# Altium integrated library TI_Logic_Flip-Flop,Latch,Register.IntLib: 2598 symbols (part 53 of 122)
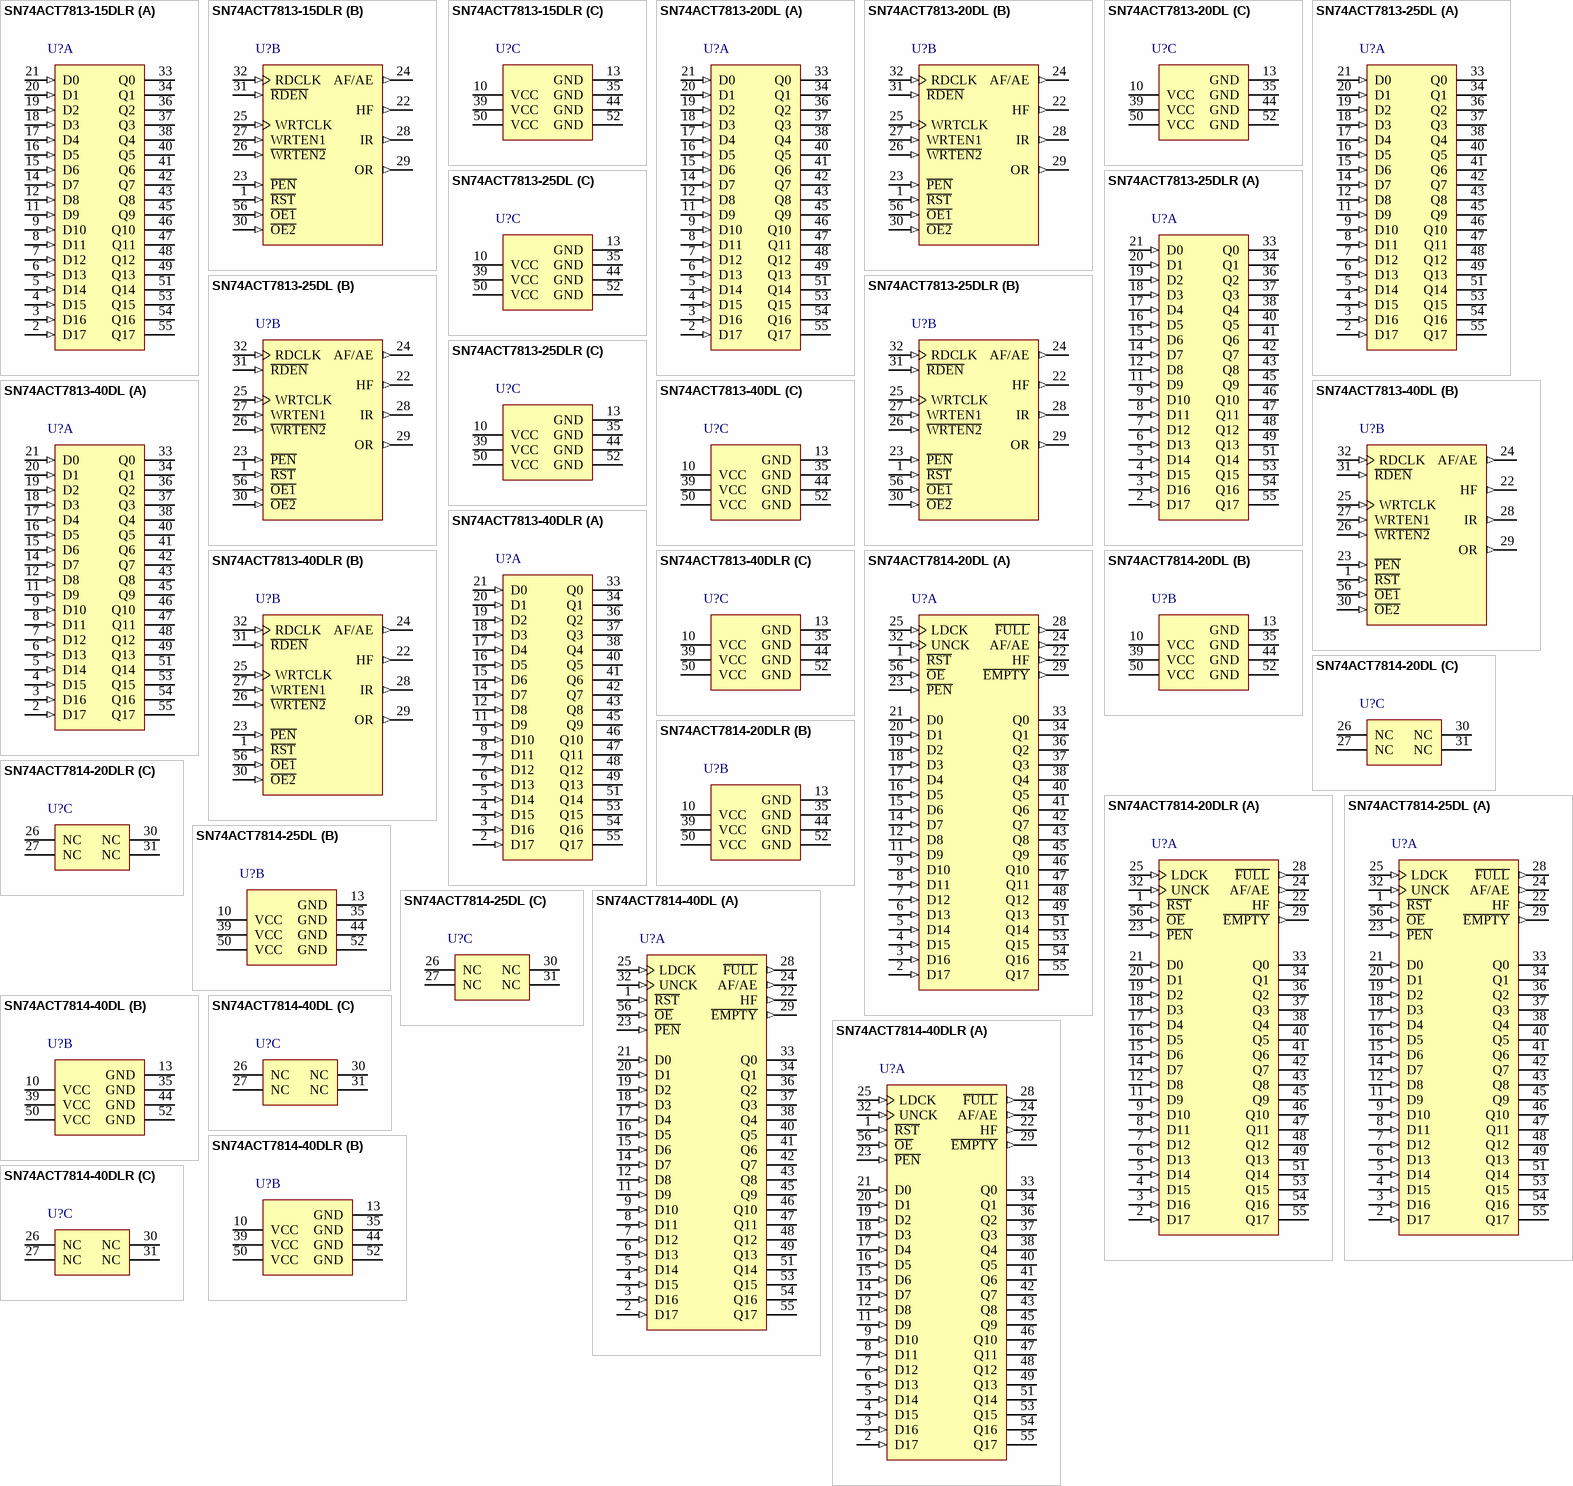
[diagram p191: symbols SN74ACT7813-15DLR to SN74ACT7814-40DLR]

## SN74ACT7813-40DLR
designator U?
64 x 18 synchronous FIFO memory, DL0056A, LARGE T&R; Generic Part Number: SN74ACT7813; Manufacturer: Texas Instruments; PartNumber: SN74ACT7813-40DLR; Fmax(MHz): 67; Voltage Nodes(V): 5; Sync/Async: S; Rating: Catalog; Output Drive(mA): -0.5; DatasheetVersion: SCAS199B; PackageReference: DL0056A; Depth: 64; Width: 18; Code_JEDEC: MO-118; ComponentLink1Description: Manufacturer URL; ComponentLink1URL: http://www.ti.com/; ComponentLink2Description: Datasheet; ComponentLink2URL: http://www.ti.com/lit/ds/symlink/sn74act7813.pdf; ComponentLink3Description: Package Specification; ComponentLink3URL: http://www.ti.com/lit/ml/mpds491/mpds491.pdf
footprint DL0056A_N (SOP, 56-Leads, Body 7.6x18.5mm, Pitch 0.635mm, IPC Medium Density)
footprint DL0056A_M (SOP, 56-Leads, Body 7.6x18.5mm, Pitch 0.635mm, IPC Low Density)
footprint DL0056A_L (SOP, 56-Leads, Body 7.6x18.5mm, Pitch 0.635mm, IPC High Density)
part A pins: 2 D17 (in) "18-bit data input port", 3 D16 (in) "18-bit data input port", 4 D15 (in) "18-bit data input port", 5 D14 (in) "18-bit data input port", 6 D13 (in) "18-bit data input port", 7 D12 (in) "18-bit data input port", 8 D11 (in) "18-bit data input port", 9 D10 (in) "18-bit data input port", 11 D9 (in) "18-bit data input port", 12 D8 (in) "18-bit data input port", 14 D7 (in) "18-bit data input port", 15 D6 (in) "18-bit data input port", 16 D5 (in) "18-bit data input port", 17 D4 (in) "18-bit data input port", 18 D3 (in) "18-bit data input port", 19 D2 (in) "18-bit data input port", 20 D1 (in) "18-bit data input port", 21 D0 (in) "18-bit data input port", 33 Q0 (hiz) "18-bit data output port. After the first valid write to empty memory, the first word is output on Q0-Q17 on the third rising edge of RDCLK. OR is also asserted high at this time to indicate ready data. When OR is low, th(See Datasheet)", 34 Q1 (hiz) "18-bit data output port. After the first valid write to empty memory, the first word is output on Q0-Q17 on the third rising edge of RDCLK. OR is also asserted high at this time to indicate ready data. When OR is low, th(See Datasheet)", 36 Q2 (hiz) "18-bit data output port. After the first valid write to empty memory, the first word is output on Q0-Q17 on the third rising edge of RDCLK. OR is also asserted high at this time to indicate ready data. When OR is low, th(See Datasheet)", 37 Q3 (hiz) "18-bit data output port. After the first valid write to empty memory, the first word is output on Q0-Q17 on the third rising edge of RDCLK. OR is also asserted high at this time to indicate ready data. When OR is low, th(See Datasheet)", 38 Q4 (hiz) "18-bit data output port. After the first valid write to empty memory, the first word is output on Q0-Q17 on the third rising edge of RDCLK. OR is also asserted high at this time to indicate ready data. When OR is low, th(See Datasheet)", 40 Q5 (hiz) "18-bit data output port. After the first valid write to empty memory, the first word is output on Q0-Q17 on the third rising edge of RDCLK. OR is also asserted high at this time to indicate ready data. When OR is low, th(See Datasheet)", 41 Q6 (hiz) "18-bit data output port. After the first valid write to empty memory, the first word is output on Q0-Q17 on the third rising edge of RDCLK. OR is also asserted high at this time to indicate ready data. When OR is low, th(See Datasheet)", 42 Q7 (hiz) "18-bit data output port. After the first valid write to empty memory, the first word is output on Q0-Q17 on the third rising edge of RDCLK. OR is also asserted high at this time to indicate ready data. When OR is low, th(See Datasheet)", 43 Q8 (hiz) "18-bit data output port. After the first valid write to empty memory, the first word is output on Q0-Q17 on the third rising edge of RDCLK. OR is also asserted high at this time to indicate ready data. When OR is low, th(See Datasheet)", 45 Q9 (hiz) "18-bit data output port. After the first valid write to empty memory, the first word is output on Q0-Q17 on the third rising edge of RDCLK. OR is also asserted high at this time to indicate ready data. When OR is low, th(See Datasheet)", 46 Q10 (hiz) "18-bit data output port. After the first valid write to empty memory, the first word is output on Q0-Q17 on the third rising edge of RDCLK. OR is also asserted high at this time to indicate ready data. When OR is low, th(See Datasheet)", 47 Q11 (hiz) "18-bit data output port. After the first valid write to empty memory, the first word is output on Q0-Q17 on the third rising edge of RDCLK. OR is also asserted high at this time to indicate ready data. When OR is low, th(See Datasheet)", 48 Q12 (hiz) "18-bit data output port. After the first valid write to empty memory, the first word is output on Q0-Q17 on the third rising edge of RDCLK. OR is also asserted high at this time to indicate ready data. When OR is low, th(See Datasheet)", 49 Q13 (hiz) "18-bit data output port. After the first valid write to empty memory, the first word is output on Q0-Q17 on the third rising edge of RDCLK. OR is also asserted high at this time to indicate ready data. When OR is low, th(See Datasheet)", 51 Q14 (hiz) "18-bit data output port. After the first valid write to empty memory, the first word is output on Q0-Q17 on the third rising edge of RDCLK. OR is also asserted high at this time to indicate ready data. When OR is low, th(See Datasheet)", 53 Q15 (hiz) "18-bit data output port. After the first valid write to empty memory, the first word is output on Q0-Q17 on the third rising edge of RDCLK. OR is also asserted high at this time to indicate ready data. When OR is low, th(See Datasheet)", 54 Q16 (hiz) "18-bit data output port. After the first valid write to empty memory, the first word is output on Q0-Q17 on the third rising edge of RDCLK. OR is also asserted high at this time to indicate ready data. When OR is low, th(See Datasheet)", 55 Q17 (hiz) "18-bit data output port. After the first valid write to empty memory, the first word is output on Q0-Q17 on the third rising edge of RDCLK. OR is also asserted high at this time to indicate ready data. When OR is low, th(See Datasheet)"
part B pins: 1 ~{RST} (in) "Reset. To reset the FIFO, four low-to-high transitions of RDCLK and four low-to-high transitions of WRTCLK must occur while R\E\S\E\T\ is low. This sets HF, IR, and OR low and AF/AE high.", 22 HF (out) "Half-full flag. HF is high when the FIFO memory contains 256 or more words. HF is low after reset.", 23 ~{PEN} (in) "Program enable. After reset and before the first word is written to the FIFO, the binary value on D0-D7 is latched as an AF/AE offset value when P\E\N\ is low and WRTCLK is high", 24 AF/AE (out) "Almost-full/almost-empty flag. Depth offset values can be programmed for AF/AE, or the default value of 64 can be used for both the almost-empty offset (X) and the almost-full offset (Y). AF/AE is high when memory contains X (See Datasheet)", 25 WRTCLK (in) "Write clock. WRTCLK is a continuous clock and can be asynchronous or coincident to RDCLK. A low-to-high transition of WRTCLK writes data to memory when W\R\T\E\N\2\ is low, WRTEN1 is high, and IR is high. IR is synchronous (See Datasheet)", 26 ~{WRTEN2} (in) "Write enables. When WRTEN1 is high, W\R\T\E\N\2\ is low, and IR is high, data is written to the FIFO on a low-to-high transition of WRTCLK.", 27 WRTEN1 (in) "Write enables. When WRTEN1 is high, W\R\T\E\N\2\ is low, and IR is high, data is written to the FIFO on a low-to-high transition of WRTCLK.", 28 IR (out) "Input ready flag. IR is synchronized to the low-to-high transition of WRTCLK. When IR is low, the FIFO is full and writes are disabled. IR is low during reset and goes high on the second low-to-high transition of WRTCLK (See Datasheet)", 29 OR (out) "Output ready flag. OR is synchronized to the low-to-high transition of RDCLK. When OR is low, the FIFO is empty and reads are disabled. Ready data is present on Q0-Q17 when OR is high. OR is low during reset and goes hig(See Datasheet)", 30 ~{OE2} (in) "Output enables. When O\E\1\, O\E\2\, and R\D\E\N\ are low and OR is high, data is read from the FIFO on a low-to-high transition of RDCLK. When either O\E\1\ or O\E\2\ is high, reads are disabled and the data outputs are in (See Datasheet)", 31 ~{RDEN} (in) "Read enable. When R\D\E\N\, O\E\1\, and O\E\2\ are low and OR is high, data is read from the FIFO on the low-to-high transition of RDCLK.", 32 RDCLK (in) "Read clock. RDCLK is a continuous clock and can be asynchronous or coincident to WRTCLK. A low-to-high transition of RDCLK reads data from memory when O\E\1\, O\E\2\, and R\D\E\N\ are low and OR is high. OR is synchronous to (See Datasheet)", 56 ~{OE1} (in) "Output enables. When O\E\1\, O\E\2\, and R\D\E\N\ are low and OR is high, data is read from the FIFO on a low-to-high transition of RDCLK. When either O\E\1\ or O\E\2\ is high, reads are disabled and the data outputs are in (See Datasheet)"
part C pins: 10 VCC (power), 13 GND (power), 35 GND (power), 39 VCC (power), 44 GND (power), 50 VCC (power), 52 GND (power)

## SN74ACT7814-20DL
designator U?
64 x 18 asynchronous FIFO memory, DL0056A, TUBE; Generic Part Number: SN74ACT7814; Manufacturer: Texas Instruments; PartNumber: SN74ACT7814-20DL; Vcc range(V): 4.5 to 5.5; Fmax(MHz): 50; Voltage Nodes(V): 5; Sync/Async: A; Rating: Catalog; Output Drive(mA): -0.5; DatasheetVersion: SCAS209C; PackageReference: DL0056A; Depth: 64; Width: 18; Code_JEDEC: MO-118; ComponentLink1Description: Manufacturer URL; ComponentLink1URL: http://www.ti.com/; ComponentLink2Description: Datasheet; ComponentLink2URL: http://www.ti.com/lit/ds/symlink/sn74act7814.pdf; ComponentLink3Description: Package Specification; ComponentLink3URL: http://www.ti.com/lit/ml/mpds491/mpds491.pdf
footprint DL0056A_N (SOP, 56-Leads, Body 7.6x18.5mm, Pitch 0.635mm, IPC Medium Density)
footprint DL0056A_M (SOP, 56-Leads, Body 7.6x18.5mm, Pitch 0.635mm, IPC Low Density)
footprint DL0056A_L (SOP, 56-Leads, Body 7.6x18.5mm, Pitch 0.635mm, IPC High Density)
part A pins: 1 ~{RST} (in) "Reset. A low level on R\E\S\E\T\ resets the FIFO and drives AF/AE and F\U\L\L\ high and HF and E\M\P\T\Y\ low.", 2 D17 (in) "18-bit data input port", 3 D16 (in) "18-bit data input port", 4 D15 (in) "18-bit data input port", 5 D14 (in) "18-bit data input port", 6 D13 (in) "18-bit data input port", 7 D12 (in) "18-bit data input port", 8 D11 (in) "18-bit data input port", 9 D10 (in) "18-bit data input port", 11 D9 (in) "18-bit data input port", 12 D8 (in) "18-bit data input port", 14 D7 (in) "18-bit data input port", 15 D6 (in) "18-bit data input port", 16 D5 (in) "18-bit data input port", 17 D4 (in) "18-bit data input port", 18 D3 (in) "18-bit data input port", 19 D2 (in) "18-bit data input port", 20 D1 (in) "18-bit data input port", 21 D0 (in) "18-bit data input port", 22 HF (out) "Half-full flag. HF is high when the FIFO memory contains 256 or more words. HF is low after reset.", 23 ~{PEN} (in) "Program enable. After reset and before the first word is written to the FIFO, the binary value on D0-D7 is latched as an AF/AE offset value when P\E\N\ is low and LDCK is high.", 24 AF/AE (out) "Almost-full/almost-empty flag. Depth-offset values can be programmed for AF/AE, or the default value of 64 can be used for both the almost-empty offset (X) and the almost-full offset (Y). AF/AE is high when memory contains X (See Datasheet)", 25 LDCK (in) "Load clock. Data is written to the FIFO on the rising edge of LDCK when F\U\L\L\ is high.", 28 ~{FULL} (out) "Full flag. F\U\L\L\ is low when the FIFO is full. A FIFO reset causes F\U\L\L\ to go high.", 29 ~{EMPTY} (out) "Empty flag. E\M\P\T\Y\ is low when the FIFO is empty. A FIFO reset also causes E\M\P\T\Y\ to go low.", 32 UNCK (in) "Unload clock. Data is read from the FIFO on the rising edge of UNCK when E\M\P\T\Y\ is high.", 33 Q0 (hiz) "18-bit data output port", 34 Q1 (hiz) "18-bit data output port", 36 Q2 (hiz) "18-bit data output port", 37 Q3 (hiz) "18-bit data output port", 38 Q4 (hiz) "18-bit data output port", 40 Q5 (hiz) "18-bit data output port", 41 Q6 (hiz) "18-bit data output port", 42 Q7 (hiz) "18-bit data output port", 43 Q8 (hiz) "18-bit data output port", 45 Q9 (hiz) "18-bit data output port", 46 Q10 (hiz) "18-bit data output port", 47 Q11 (hiz) "18-bit data output port", 48 Q12 (hiz) "18-bit data output port", 49 Q13 (hiz) "18-bit data output port", 51 Q14 (hiz) "18-bit data output port", 53 Q15 (hiz) "18-bit data output port", 54 Q16 (hiz) "18-bit data output port", 55 Q17 (hiz) "18-bit data output port", 56 ~{OE} (in) "Output enable. When O\E\ is high, the data outputs are in the high-impedance state."
part B pins: 10 VCC (power), 13 GND (power), 35 GND (power), 39 VCC (power), 44 GND (power), 50 VCC (power), 52 GND (power)
part C pins: 26 NC, 27 NC, 30 NC, 31 NC

## SN74ACT7814-20DLR
designator U?
64 x 18 asynchronous FIFO memory, DL0056A, LARGE T&R; Generic Part Number: SN74ACT7814; Manufacturer: Texas Instruments; PartNumber: SN74ACT7814-20DLR; Vcc range(V): 4.5 to 5.5; Fmax(MHz): 50; Voltage Nodes(V): 5; Sync/Async: A; Rating: Catalog; Output Drive(mA): -0.5; DatasheetVersion: SCAS209C; PackageReference: DL0056A; Depth: 64; Width: 18; Code_JEDEC: MO-118; ComponentLink1Description: Manufacturer URL; ComponentLink1URL: http://www.ti.com/; ComponentLink2Description: Datasheet; ComponentLink2URL: http://www.ti.com/lit/ds/symlink/sn74act7814.pdf; ComponentLink3Description: Package Specification; ComponentLink3URL: http://www.ti.com/lit/ml/mpds491/mpds491.pdf
footprint DL0056A_N (SOP, 56-Leads, Body 7.6x18.5mm, Pitch 0.635mm, IPC Medium Density)
footprint DL0056A_M (SOP, 56-Leads, Body 7.6x18.5mm, Pitch 0.635mm, IPC Low Density)
footprint DL0056A_L (SOP, 56-Leads, Body 7.6x18.5mm, Pitch 0.635mm, IPC High Density)
part A pins: 1 ~{RST} (in) "Reset. A low level on R\E\S\E\T\ resets the FIFO and drives AF/AE and F\U\L\L\ high and HF and E\M\P\T\Y\ low.", 2 D17 (in) "18-bit data input port", 3 D16 (in) "18-bit data input port", 4 D15 (in) "18-bit data input port", 5 D14 (in) "18-bit data input port", 6 D13 (in) "18-bit data input port", 7 D12 (in) "18-bit data input port", 8 D11 (in) "18-bit data input port", 9 D10 (in) "18-bit data input port", 11 D9 (in) "18-bit data input port", 12 D8 (in) "18-bit data input port", 14 D7 (in) "18-bit data input port", 15 D6 (in) "18-bit data input port", 16 D5 (in) "18-bit data input port", 17 D4 (in) "18-bit data input port", 18 D3 (in) "18-bit data input port", 19 D2 (in) "18-bit data input port", 20 D1 (in) "18-bit data input port", 21 D0 (in) "18-bit data input port", 22 HF (out) "Half-full flag. HF is high when the FIFO memory contains 256 or more words. HF is low after reset.", 23 ~{PEN} (in) "Program enable. After reset and before the first word is written to the FIFO, the binary value on D0-D7 is latched as an AF/AE offset value when P\E\N\ is low and LDCK is high.", 24 AF/AE (out) "Almost-full/almost-empty flag. Depth-offset values can be programmed for AF/AE, or the default value of 64 can be used for both the almost-empty offset (X) and the almost-full offset (Y). AF/AE is high when memory contains X (See Datasheet)", 25 LDCK (in) "Load clock. Data is written to the FIFO on the rising edge of LDCK when F\U\L\L\ is high.", 28 ~{FULL} (out) "Full flag. F\U\L\L\ is low when the FIFO is full. A FIFO reset causes F\U\L\L\ to go high.", 29 ~{EMPTY} (out) "Empty flag. E\M\P\T\Y\ is low when the FIFO is empty. A FIFO reset also causes E\M\P\T\Y\ to go low.", 32 UNCK (in) "Unload clock. Data is read from the FIFO on the rising edge of UNCK when E\M\P\T\Y\ is high.", 33 Q0 (hiz) "18-bit data output port", 34 Q1 (hiz) "18-bit data output port", 36 Q2 (hiz) "18-bit data output port", 37 Q3 (hiz) "18-bit data output port", 38 Q4 (hiz) "18-bit data output port", 40 Q5 (hiz) "18-bit data output port", 41 Q6 (hiz) "18-bit data output port", 42 Q7 (hiz) "18-bit data output port", 43 Q8 (hiz) "18-bit data output port", 45 Q9 (hiz) "18-bit data output port", 46 Q10 (hiz) "18-bit data output port", 47 Q11 (hiz) "18-bit data output port", 48 Q12 (hiz) "18-bit data output port", 49 Q13 (hiz) "18-bit data output port", 51 Q14 (hiz) "18-bit data output port", 53 Q15 (hiz) "18-bit data output port", 54 Q16 (hiz) "18-bit data output port", 55 Q17 (hiz) "18-bit data output port", 56 ~{OE} (in) "Output enable. When O\E\ is high, the data outputs are in the high-impedance state."
part B pins: 10 VCC (power), 13 GND (power), 35 GND (power), 39 VCC (power), 44 GND (power), 50 VCC (power), 52 GND (power)
part C pins: 26 NC, 27 NC, 30 NC, 31 NC

## SN74ACT7814-25DL
designator U?
64 x 18 asynchronous FIFO memory, DL0056A, TUBE; Generic Part Number: SN74ACT7814; Manufacturer: Texas Instruments; PartNumber: SN74ACT7814-25DL; Vcc range(V): 4.5 to 5.5; Fmax(MHz): 50; Voltage Nodes(V): 5; Sync/Async: A; Rating: Catalog; Output Drive(mA): -0.5; DatasheetVersion: SCAS209C; PackageReference: DL0056A; Depth: 64; Width: 18; Code_JEDEC: MO-118; ComponentLink1Description: Manufacturer URL; ComponentLink1URL: http://www.ti.com/; ComponentLink2Description: Datasheet; ComponentLink2URL: http://www.ti.com/lit/ds/symlink/sn74act7814.pdf; ComponentLink3Description: Package Specification; ComponentLink3URL: http://www.ti.com/lit/ml/mpds491/mpds491.pdf
footprint DL0056A_N (SOP, 56-Leads, Body 7.6x18.5mm, Pitch 0.635mm, IPC Medium Density)
footprint DL0056A_M (SOP, 56-Leads, Body 7.6x18.5mm, Pitch 0.635mm, IPC Low Density)
footprint DL0056A_L (SOP, 56-Leads, Body 7.6x18.5mm, Pitch 0.635mm, IPC High Density)
part A pins: 1 ~{RST} (in) "Reset. A low level on R\E\S\E\T\ resets the FIFO and drives AF/AE and F\U\L\L\ high and HF and E\M\P\T\Y\ low.", 2 D17 (in) "18-bit data input port", 3 D16 (in) "18-bit data input port", 4 D15 (in) "18-bit data input port", 5 D14 (in) "18-bit data input port", 6 D13 (in) "18-bit data input port", 7 D12 (in) "18-bit data input port", 8 D11 (in) "18-bit data input port", 9 D10 (in) "18-bit data input port", 11 D9 (in) "18-bit data input port", 12 D8 (in) "18-bit data input port", 14 D7 (in) "18-bit data input port", 15 D6 (in) "18-bit data input port", 16 D5 (in) "18-bit data input port", 17 D4 (in) "18-bit data input port", 18 D3 (in) "18-bit data input port", 19 D2 (in) "18-bit data input port", 20 D1 (in) "18-bit data input port", 21 D0 (in) "18-bit data input port", 22 HF (out) "Half-full flag. HF is high when the FIFO memory contains 256 or more words. HF is low after reset.", 23 ~{PEN} (in) "Program enable. After reset and before the first word is written to the FIFO, the binary value on D0-D7 is latched as an AF/AE offset value when P\E\N\ is low and LDCK is high.", 24 AF/AE (out) "Almost-full/almost-empty flag. Depth-offset values can be programmed for AF/AE, or the default value of 64 can be used for both the almost-empty offset (X) and the almost-full offset (Y). AF/AE is high when memory contains X (See Datasheet)", 25 LDCK (in) "Load clock. Data is written to the FIFO on the rising edge of LDCK when F\U\L\L\ is high.", 28 ~{FULL} (out) "Full flag. F\U\L\L\ is low when the FIFO is full. A FIFO reset causes F\U\L\L\ to go high.", 29 ~{EMPTY} (out) "Empty flag. E\M\P\T\Y\ is low when the FIFO is empty. A FIFO reset also causes E\M\P\T\Y\ to go low.", 32 UNCK (in) "Unload clock. Data is read from the FIFO on the rising edge of UNCK when E\M\P\T\Y\ is high.", 33 Q0 (hiz) "18-bit data output port", 34 Q1 (hiz) "18-bit data output port", 36 Q2 (hiz) "18-bit data output port", 37 Q3 (hiz) "18-bit data output port", 38 Q4 (hiz) "18-bit data output port", 40 Q5 (hiz) "18-bit data output port", 41 Q6 (hiz) "18-bit data output port", 42 Q7 (hiz) "18-bit data output port", 43 Q8 (hiz) "18-bit data output port", 45 Q9 (hiz) "18-bit data output port", 46 Q10 (hiz) "18-bit data output port", 47 Q11 (hiz) "18-bit data output port", 48 Q12 (hiz) "18-bit data output port", 49 Q13 (hiz) "18-bit data output port", 51 Q14 (hiz) "18-bit data output port", 53 Q15 (hiz) "18-bit data output port", 54 Q16 (hiz) "18-bit data output port", 55 Q17 (hiz) "18-bit data output port", 56 ~{OE} (in) "Output enable. When O\E\ is high, the data outputs are in the high-impedance state."
part B pins: 10 VCC (power), 13 GND (power), 35 GND (power), 39 VCC (power), 44 GND (power), 50 VCC (power), 52 GND (power)
part C pins: 26 NC, 27 NC, 30 NC, 31 NC

## SN74ACT7814-40DL
designator U?
64 x 18 asynchronous FIFO memory, DL0056A, TUBE; Generic Part Number: SN74ACT7814; Manufacturer: Texas Instruments; PartNumber: SN74ACT7814-40DL; Vcc range(V): 4.5 to 5.5; Fmax(MHz): 50; Voltage Nodes(V): 5; Sync/Async: A; Rating: Catalog; Output Drive(mA): -0.5; DatasheetVersion: SCAS209C; PackageReference: DL0056A; Depth: 64; Width: 18; Code_JEDEC: MO-118; ComponentLink1Description: Manufacturer URL; ComponentLink1URL: http://www.ti.com/; ComponentLink2Description: Datasheet; ComponentLink2URL: http://www.ti.com/lit/ds/symlink/sn74act7814.pdf; ComponentLink3Description: Package Specification; ComponentLink3URL: http://www.ti.com/lit/ml/mpds491/mpds491.pdf
footprint DL0056A_N (SOP, 56-Leads, Body 7.6x18.5mm, Pitch 0.635mm, IPC Medium Density)
footprint DL0056A_M (SOP, 56-Leads, Body 7.6x18.5mm, Pitch 0.635mm, IPC Low Density)
footprint DL0056A_L (SOP, 56-Leads, Body 7.6x18.5mm, Pitch 0.635mm, IPC High Density)
part A pins: 1 ~{RST} (in) "Reset. A low level on R\E\S\E\T\ resets the FIFO and drives AF/AE and F\U\L\L\ high and HF and E\M\P\T\Y\ low.", 2 D17 (in) "18-bit data input port", 3 D16 (in) "18-bit data input port", 4 D15 (in) "18-bit data input port", 5 D14 (in) "18-bit data input port", 6 D13 (in) "18-bit data input port", 7 D12 (in) "18-bit data input port", 8 D11 (in) "18-bit data input port", 9 D10 (in) "18-bit data input port", 11 D9 (in) "18-bit data input port", 12 D8 (in) "18-bit data input port", 14 D7 (in) "18-bit data input port", 15 D6 (in) "18-bit data input port", 16 D5 (in) "18-bit data input port", 17 D4 (in) "18-bit data input port", 18 D3 (in) "18-bit data input port", 19 D2 (in) "18-bit data input port", 20 D1 (in) "18-bit data input port", 21 D0 (in) "18-bit data input port", 22 HF (out) "Half-full flag. HF is high when the FIFO memory contains 256 or more words. HF is low after reset.", 23 ~{PEN} (in) "Program enable. After reset and before the first word is written to the FIFO, the binary value on D0-D7 is latched as an AF/AE offset value when P\E\N\ is low and LDCK is high.", 24 AF/AE (out) "Almost-full/almost-empty flag. Depth-offset values can be programmed for AF/AE, or the default value of 64 can be used for both the almost-empty offset (X) and the almost-full offset (Y). AF/AE is high when memory contains X (See Datasheet)", 25 LDCK (in) "Load clock. Data is written to the FIFO on the rising edge of LDCK when F\U\L\L\ is high.", 28 ~{FULL} (out) "Full flag. F\U\L\L\ is low when the FIFO is full. A FIFO reset causes F\U\L\L\ to go high.", 29 ~{EMPTY} (out) "Empty flag. E\M\P\T\Y\ is low when the FIFO is empty. A FIFO reset also causes E\M\P\T\Y\ to go low.", 32 UNCK (in) "Unload clock. Data is read from the FIFO on the rising edge of UNCK when E\M\P\T\Y\ is high.", 33 Q0 (hiz) "18-bit data output port", 34 Q1 (hiz) "18-bit data output port", 36 Q2 (hiz) "18-bit data output port", 37 Q3 (hiz) "18-bit data output port", 38 Q4 (hiz) "18-bit data output port", 40 Q5 (hiz) "18-bit data output port", 41 Q6 (hiz) "18-bit data output port", 42 Q7 (hiz) "18-bit data output port", 43 Q8 (hiz) "18-bit data output port", 45 Q9 (hiz) "18-bit data output port", 46 Q10 (hiz) "18-bit data output port", 47 Q11 (hiz) "18-bit data output port", 48 Q12 (hiz) "18-bit data output port", 49 Q13 (hiz) "18-bit data output port", 51 Q14 (hiz) "18-bit data output port", 53 Q15 (hiz) "18-bit data output port", 54 Q16 (hiz) "18-bit data output port", 55 Q17 (hiz) "18-bit data output port", 56 ~{OE} (in) "Output enable. When O\E\ is high, the data outputs are in the high-impedance state."
part B pins: 10 VCC (power), 13 GND (power), 35 GND (power), 39 VCC (power), 44 GND (power), 50 VCC (power), 52 GND (power)
part C pins: 26 NC, 27 NC, 30 NC, 31 NC

## SN74ACT7814-40DLR
designator U?
64 x 18 asynchronous FIFO memory, DL0056A, LARGE T&R; Generic Part Number: SN74ACT7814; Manufacturer: Texas Instruments; PartNumber: SN74ACT7814-40DLR; Vcc range(V): 4.5 to 5.5; Fmax(MHz): 50; Voltage Nodes(V): 5; Sync/Async: A; Rating: Catalog; Output Drive(mA): -0.5; DatasheetVersion: SCAS209C; PackageReference: DL0056A; Depth: 64; Width: 18; Code_JEDEC: MO-118; ComponentLink1Description: Manufacturer URL; ComponentLink1URL: http://www.ti.com/; ComponentLink2Description: Datasheet; ComponentLink2URL: http://www.ti.com/lit/ds/symlink/sn74act7814.pdf; ComponentLink3Description: Package Specification; ComponentLink3URL: http://www.ti.com/lit/ml/mpds491/mpds491.pdf
footprint DL0056A_N (SOP, 56-Leads, Body 7.6x18.5mm, Pitch 0.635mm, IPC Medium Density)
footprint DL0056A_M (SOP, 56-Leads, Body 7.6x18.5mm, Pitch 0.635mm, IPC Low Density)
footprint DL0056A_L (SOP, 56-Leads, Body 7.6x18.5mm, Pitch 0.635mm, IPC High Density)
part A pins: 1 ~{RST} (in) "Reset. A low level on R\E\S\E\T\ resets the FIFO and drives AF/AE and F\U\L\L\ high and HF and E\M\P\T\Y\ low.", 2 D17 (in) "18-bit data input port", 3 D16 (in) "18-bit data input port", 4 D15 (in) "18-bit data input port", 5 D14 (in) "18-bit data input port", 6 D13 (in) "18-bit data input port", 7 D12 (in) "18-bit data input port", 8 D11 (in) "18-bit data input port", 9 D10 (in) "18-bit data input port", 11 D9 (in) "18-bit data input port", 12 D8 (in) "18-bit data input port", 14 D7 (in) "18-bit data input port", 15 D6 (in) "18-bit data input port", 16 D5 (in) "18-bit data input port", 17 D4 (in) "18-bit data input port", 18 D3 (in) "18-bit data input port", 19 D2 (in) "18-bit data input port", 20 D1 (in) "18-bit data input port", 21 D0 (in) "18-bit data input port", 22 HF (out) "Half-full flag. HF is high when the FIFO memory contains 256 or more words. HF is low after reset.", 23 ~{PEN} (in) "Program enable. After reset and before the first word is written to the FIFO, the binary value on D0-D7 is latched as an AF/AE offset value when P\E\N\ is low and LDCK is high.", 24 AF/AE (out) "Almost-full/almost-empty flag. Depth-offset values can be programmed for AF/AE, or the default value of 64 can be used for both the almost-empty offset (X) and the almost-full offset (Y). AF/AE is high when memory contains X (See Datasheet)", 25 LDCK (in) "Load clock. Data is written to the FIFO on the rising edge of LDCK when F\U\L\L\ is high.", 28 ~{FULL} (out) "Full flag. F\U\L\L\ is low when the FIFO is full. A FIFO reset causes F\U\L\L\ to go high.", 29 ~{EMPTY} (out) "Empty flag. E\M\P\T\Y\ is low when the FIFO is empty. A FIFO reset also causes E\M\P\T\Y\ to go low.", 32 UNCK (in) "Unload clock. Data is read from the FIFO on the rising edge of UNCK when E\M\P\T\Y\ is high.", 33 Q0 (hiz) "18-bit data output port", 34 Q1 (hiz) "18-bit data output port", 36 Q2 (hiz) "18-bit data output port", 37 Q3 (hiz) "18-bit data output port", 38 Q4 (hiz) "18-bit data output port", 40 Q5 (hiz) "18-bit data output port", 41 Q6 (hiz) "18-bit data output port", 42 Q7 (hiz) "18-bit data output port", 43 Q8 (hiz) "18-bit data output port", 45 Q9 (hiz) "18-bit data output port", 46 Q10 (hiz) "18-bit data output port", 47 Q11 (hiz) "18-bit data output port", 48 Q12 (hiz) "18-bit data output port", 49 Q13 (hiz) "18-bit data output port", 51 Q14 (hiz) "18-bit data output port", 53 Q15 (hiz) "18-bit data output port", 54 Q16 (hiz) "18-bit data output port", 55 Q17 (hiz) "18-bit data output port", 56 ~{OE} (in) "Output enable. When O\E\ is high, the data outputs are in the high-impedance state."
part B pins: 10 VCC (power), 13 GND (power), 35 GND (power), 39 VCC (power), 44 GND (power), 50 VCC (power), 52 GND (power)
part C pins: 26 NC, 27 NC, 30 NC, 31 NC

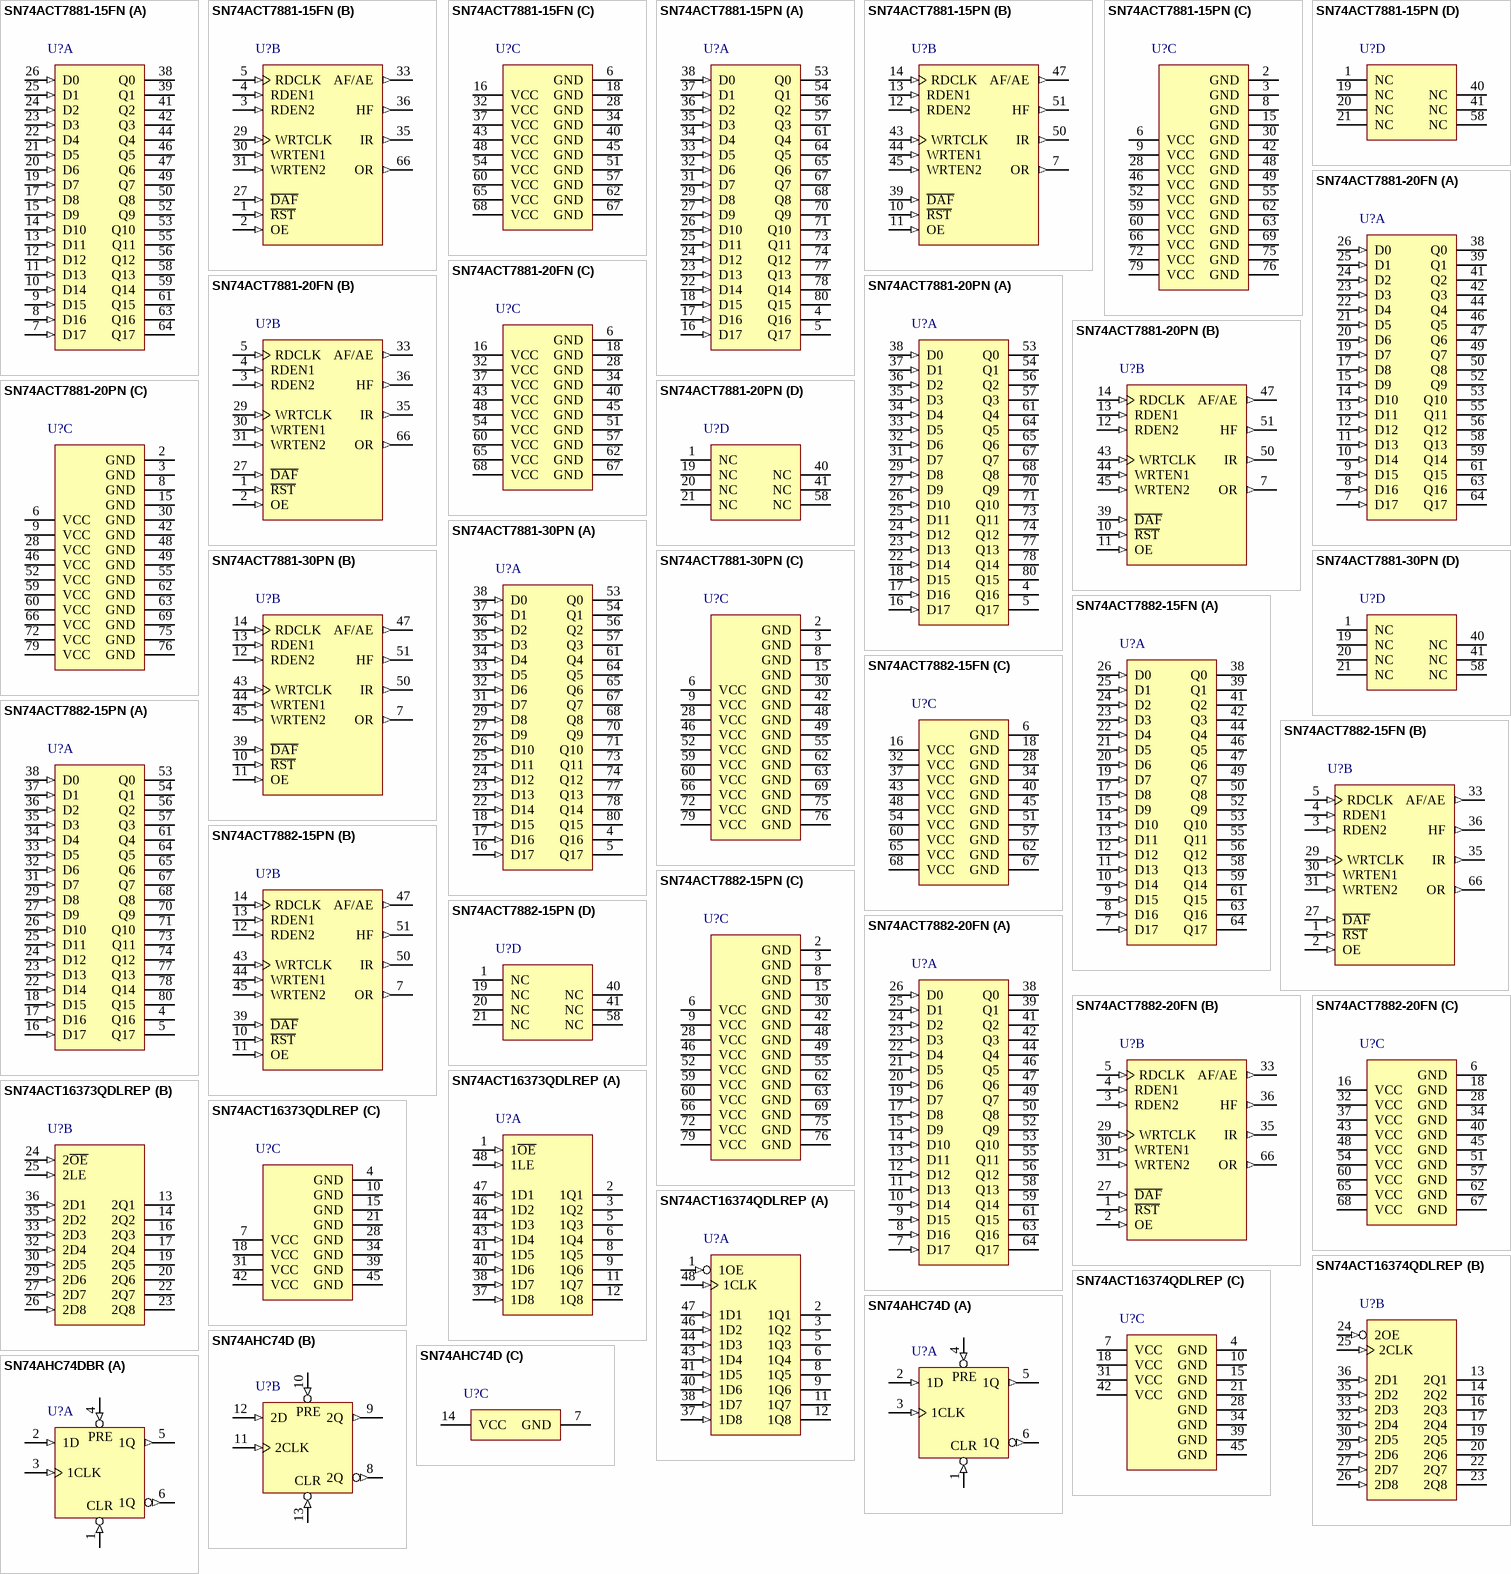
[diagram p63: symbols SN74ACT7881-15FN to SN74AHC74DBR]

## SN74ACT7881-15FN
designator U?
1024 x 18 synchronous FIFO memory, FN0068A, TUBE; Generic Part Number: SN74ACT7881; Manufacturer: Texas Instruments; PartNumber: SN74ACT7881-15FN; Vcc range(V): 4.5 to 5.5; Fmax(MHz): 67; Voltage Nodes(V): 5; Sync/Async: S; Rating: Catalog; Output Drive(mA): -0.5; DatasheetVersion: SCAS227E; PackageReference: FN0068A; Depth: 1024; Width: 18; Code_JEDEC: MS-018; ComponentLink1Description: Manufacturer URL; ComponentLink1URL: http://www.ti.com/; ComponentLink2Description: Datasheet; ComponentLink2URL: http://www.ti.com/lit/ds/symlink/sn74act7881.pdf; ComponentLink3Description: Package Specification; ComponentLink3URL: http://www.ti.com/lit/ml/mplc004a/mplc004a.pdf
footprint FN0068A_N (Leaded Chip Carrier, 68-Leads, Body 24.33x24.33mm, Pitch 1.27mm, IPC Medium Density)
footprint FN0068A_M (Leaded Chip Carrier, 68-Leads, Body 24.33x24.33mm, Pitch 1.27mm, IPC Low Density)
footprint FN0068A_L (Leaded Chip Carrier, 68-Leads, Body 24.33x24.33mm, Pitch 1.27mm, IPC High Density)
part A pins: 7 D17 (in) "Data inputs for 18-bit-wide data to be stored in the memory. A high-to-low transition on D\A\F\ captures data for the almost-empty/almost-full offset (X) from D9-D0.", 8 D16 (in) "Data inputs for 18-bit-wide data to be stored in the memory. A high-to-low transition on D\A\F\ captures data for the almost-empty/almost-full offset (X) from D9-D0.", 9 D15 (in) "Data inputs for 18-bit-wide data to be stored in the memory. A high-to-low transition on D\A\F\ captures data for the almost-empty/almost-full offset (X) from D9-D0.", 10 D14 (in) "Data inputs for 18-bit-wide data to be stored in the memory. A high-to-low transition on D\A\F\ captures data for the almost-empty/almost-full offset (X) from D9-D0.", 11 D13 (in) "Data inputs for 18-bit-wide data to be stored in the memory. A high-to-low transition on D\A\F\ captures data for the almost-empty/almost-full offset (X) from D9-D0.", 12 D12 (in) "Data inputs for 18-bit-wide data to be stored in the memory. A high-to-low transition on D\A\F\ captures data for the almost-empty/almost-full offset (X) from D9-D0.", 13 D11 (in) "Data inputs for 18-bit-wide data to be stored in the memory. A high-to-low transition on D\A\F\ captures data for the almost-empty/almost-full offset (X) from D9-D0.", 14 D10 (in) "Data inputs for 18-bit-wide data to be stored in the memory. A high-to-low transition on D\A\F\ captures data for the almost-empty/almost-full offset (X) from D9-D0.", 15 D9 (in) "Data inputs for 18-bit-wide data to be stored in the memory. A high-to-low transition on D\A\F\ captures data for the almost-empty/almost-full offset (X) from D9-D0.", 17 D8 (in) "Data inputs for 18-bit-wide data to be stored in the memory. A high-to-low transition on D\A\F\ captures data for the almost-empty/almost-full offset (X) from D9-D0.", 19 D7 (in) "Data inputs for 18-bit-wide data to be stored in the memory. A high-to-low transition on D\A\F\ captures data for the almost-empty/almost-full offset (X) from D9-D0.", 20 D6 (in) "Data inputs for 18-bit-wide data to be stored in the memory. A high-to-low transition on D\A\F\ captures data for the almost-empty/almost-full offset (X) from D9-D0.", 21 D5 (in) "Data inputs for 18-bit-wide data to be stored in the memory. A high-to-low transition on D\A\F\ captures data for the almost-empty/almost-full offset (X) from D9-D0.", 22 D4 (in) "Data inputs for 18-bit-wide data to be stored in the memory. A high-to-low transition on D\A\F\ captures data for the almost-empty/almost-full offset (X) from D9-D0.", 23 D3 (in) "Data inputs for 18-bit-wide data to be stored in the memory. A high-to-low transition on D\A\F\ captures data for the almost-empty/almost-full offset (X) from D9-D0.", 24 D2 (in) "Data inputs for 18-bit-wide data to be stored in the memory. A high-to-low transition on D\A\F\ captures data for the almost-empty/almost-full offset (X) from D9-D0.", 25 D1 (in) "Data inputs for 18-bit-wide data to be stored in the memory. A high-to-low transition on D\A\F\ captures data for the almost-empty/almost-full offset (X) from D9-D0.", 26 D0 (in) "Data inputs for 18-bit-wide data to be stored in the memory. A high-to-low transition on D\A\F\ captures data for the almost-empty/almost-full offset (X) from D9-D0.", 38 Q0 (hiz) "Data out. The first data word to be loaded into the FIFO is moved to Q0-Q17 on the rising edge of the third RDCLK pulse to occur after the first valid write. RDEN1 and RDEN2 do not affect this operation. Following data is (See Datasheet)", 39 Q1 (hiz) "Data out. The first data word to be loaded into the FIFO is moved to Q0-Q17 on the rising edge of the third RDCLK pulse to occur after the first valid write. RDEN1 and RDEN2 do not affect this operation. Following data is (See Datasheet)", 41 Q2 (hiz) "Data out. The first data word to be loaded into the FIFO is moved to Q0-Q17 on the rising edge of the third RDCLK pulse to occur after the first valid write. RDEN1 and RDEN2 do not affect this operation. Following data is (See Datasheet)", 42 Q3 (hiz) "Data out. The first data word to be loaded into the FIFO is moved to Q0-Q17 on the rising edge of the third RDCLK pulse to occur after the first valid write. RDEN1 and RDEN2 do not affect this operation. Following data is (See Datasheet)", 44 Q4 (hiz) "Data out. The first data word to be loaded into the FIFO is moved to Q0-Q17 on the rising edge of the third RDCLK pulse to occur after the first valid write. RDEN1 and RDEN2 do not affect this operation. Following data is (See Datasheet)", 46 Q5 (hiz) "Data out. The first data word to be loaded into the FIFO is moved to Q0-Q17 on the rising edge of the third RDCLK pulse to occur after the first valid write. RDEN1 and RDEN2 do not affect this operation. Following data is (See Datasheet)", 47 Q6 (hiz) "Data out. The first data word to be loaded into the FIFO is moved to Q0-Q17 on the rising edge of the third RDCLK pulse to occur after the first valid write. RDEN1 and RDEN2 do not affect this operation. Following data is (See Datasheet)", 49 Q7 (hiz) "Data out. The first data word to be loaded into the FIFO is moved to Q0-Q17 on the rising edge of the third RDCLK pulse to occur after the first valid write. RDEN1 and RDEN2 do not affect this operation. Following data is (See Datasheet)", 50 Q8 (hiz) "Data out. The first data word to be loaded into the FIFO is moved to Q0-Q17 on the rising edge of the third RDCLK pulse to occur after the first valid write. RDEN1 and RDEN2 do not affect this operation. Following data is (See Datasheet)", 52 Q9 (hiz) "Data out. The first data word to be loaded into the FIFO is moved to Q0-Q17 on the rising edge of the third RDCLK pulse to occur after the first valid write. RDEN1 and RDEN2 do not affect this operation. Following data is (See Datasheet)", 53 Q10 (hiz) "Data out. The first data word to be loaded into the FIFO is moved to Q0-Q17 on the rising edge of the third RDCLK pulse to occur after the first valid write. RDEN1 and RDEN2 do not affect this operation. Following data is (See Datasheet)", 55 Q11 (hiz) "Data out. The first data word to be loaded into the FIFO is moved to Q0-Q17 on the rising edge of the third RDCLK pulse to occur after the first valid write. RDEN1 and RDEN2 do not affect this operation. Following data is (See Datasheet)", 56 Q12 (hiz) "Data out. The first data word to be loaded into the FIFO is moved to Q0-Q17 on the rising edge of the third RDCLK pulse to occur after the first valid write. RDEN1 and RDEN2 do not affect this operation. Following data is (See Datasheet)", 58 Q13 (hiz) "Data out. The first data word to be loaded into the FIFO is moved to Q0-Q17 on the rising edge of the third RDCLK pulse to occur after the first valid write. RDEN1 and RDEN2 do not affect this operation. Following data is (See Datasheet)", 59 Q14 (hiz) "Data out. The first data word to be loaded into the FIFO is moved to Q0-Q17 on the rising edge of the third RDCLK pulse to occur after the first valid write. RDEN1 and RDEN2 do not affect this operation. Following data is (See Datasheet)", 61 Q15 (hiz) "Data out. The first data word to be loaded into the FIFO is moved to Q0-Q17 on the rising edge of the third RDCLK pulse to occur after the first valid write. RDEN1 and RDEN2 do not affect this operation. Following data is (See Datasheet)", 63 Q16 (hiz) "Data out. The first data word to be loaded into the FIFO is moved to Q0-Q17 on the rising edge of the third RDCLK pulse to occur after the first valid write. RDEN1 and RDEN2 do not affect this operation. Following data is (See Datasheet)", 64 Q17 (hiz) "Data out. The first data word to be loaded into the FIFO is moved to Q0-Q17 on the rising edge of the third RDCLK pulse to occur after the first valid write. RDEN1 and RDEN2 do not affect this operation. Following data is (See Datasheet)"
part B pins: 1 ~{RST} (in) "Reset. A reset is accomplished by taking R\E\S\E\T\ low and generating a minimum of four RDCLK and WRTCLK cycles. This ensures that the internal read and write pointers are reset and that OR, HF, and IR are low, and AF/AE is (See Datasheet)", 2 OE (in) "Output enable. The Q0-Q17 outputs are in the high-impedance state when OE is low. OE must be high before the rising edge of RDCLK to read a word from memory.", 3 RDEN2 (in) "Read enable. RDEN1 and RDEN2 must be high before a rising edge on RDCLK to read a word out of memory. RDEN1 and RDEN2 are not used to read the first word stored in memory.", 4 RDEN1 (in) "Read enable. RDEN1 and RDEN2 must be high before a rising edge on RDCLK to read a word out of memory. RDEN1 and RDEN2 are not used to read the first word stored in memory.", 5 RDCLK (in) "Read clock. Data is read out of memory on the low-to-high transition at RDCLK if OR, OE, and RDEN1 and RDEN2 are high. RDCLK is a free-running clock and functions as the synchronizing clock for all data transfers out of the (See Datasheet)", 27 ~{DAF} (in) "Define almost-full. The high-to-low transition of D\A\F\ stores the binary value of data inputs as the AF/AE offset value (X). With D\A\F\ held low, a R\E\S\E\T\ cycle defines the AF/AE flag using X.", 29 WRTCLK (in) "Write clock. Data is written into memory on a low-to-high transition of WRTCLK if IR, WRTEN1, and WRTEN2 are high. WRTCLK is a free-running clock and functions as the synchronizing clock for all data transfers into the FIFO. (See Datasheet)", 30 WRTEN1 (in) "Write enable. WRTEN1 and WRTEN2 must be high before a rising edge on WRTCLK for a word to be written into memory. WRTEN1 and WRTEN2 do not affect the storage of the AF/AE offset value (X).", 31 WRTEN2 (in) "Write enable. WRTEN1 and WRTEN2 must be high before a rising edge on WRTCLK for a word to be written into memory. WRTEN1 and WRTEN2 do not affect the storage of the AF/AE offset value (X).", 33 AF/AE (out) "Almost-full/almost-empty flag. The AF/AE boundary is defined by the AF/AE offset value (X). Thisvalue can be programmed during reset or the default value of 256 can be used. AF/AE is high when the number of words in memory (See Datasheet)", 35 IR (out) "Input-ready flag. IR is high when the FIFO is not full and low when the device is full. During reset, IR is driven low on the rising edge of the second WRTCLK pulse. IR then is driven high on the rising edge of the second (See Datasheet)", 36 HF (out) "Half-full flag. HF is high when the FIFO contains 1024 or more words and is low when the number of words in memory is less than half the depth of the FIFO.", 66 OR (out) "Output-ready flag. OR is high when the FIFO is not empty and low when it is empty. During reset, OR is set low on the rising edge of the third RDCLK pulse. OR is set high on the rising edge of the third RDCLK pulse to occur (See Datasheet)"
part C pins: 6 GND (power), 16 VCC (power), 18 GND (power), 28 GND (power), 32 VCC (power), 34 GND (power), 37 VCC (power), 40 GND (power), 43 VCC (power), 45 GND (power), 48 VCC (power), 51 GND (power), 54 VCC (power), 57 GND (power), 60 VCC (power), 62 GND (power), 65 VCC (power), 67 GND (power), 68 VCC (power)